# EAGLE library part SN74LVC2G126 (library lib_paul)
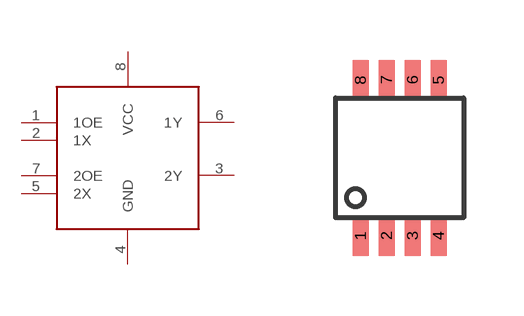
[diagram p23: symbol with the pads of DCT8; footprint DCT8]

Designator prefix -

## SN74LVC2G126  [DCT8]
1  1OE
2  1X
3  2Y
4  GND
5  2X
6  1Y
7  2OE
8  VCC

## Footprint DCT8 (pad centres in mm)
smd 0.4 x 1: 1 -0.975,-1.95; 2 -0.325,-1.95; 3 0.325,-1.95; 4 0.975,-1.95; 5 0.975,1.95; 6 0.325,1.95; 7 -0.325,1.95; 8 -0.975,1.95